# EAGLE library part RJ12 (library lpatiny)
CORCOM Modular RJ Jacks No Shield Source: www.tycoelectronics.com .. ENG_DS_1654001_1099_RJ_L_0507.pdf
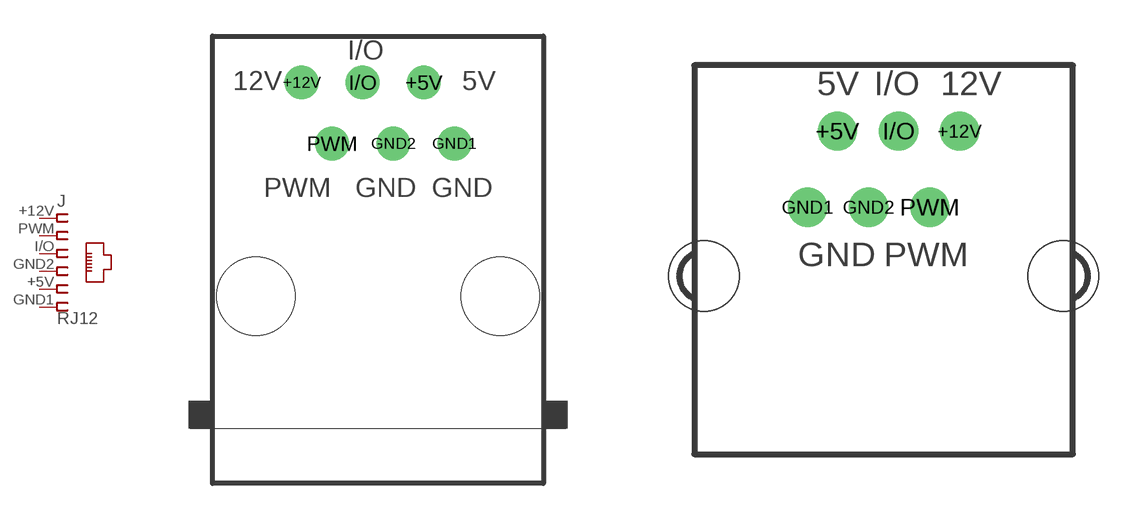
[diagram p5: symbol with the pads of RJ12-STRAIGHT; footprints RJ12-STRAIGHT, RJ12-RIGHTANGLE]

Designator prefix J

## RJ12STRAIGHT  [RJ12-STRAIGHT]
+5V  5  pwr
+12V  1  pwr
GND1  6  pwr
GND2  4  pwr
I/O  3
PWM  2

## RJ12RIGHTANGLE  [RJ12-RIGHTANGLE]
Pads as for RJ12-STRAIGHT

## RJ12STRAIGHT-I2C  [RJ12-STRAIGHT-I2C]
+5V  5  pwr
+12V  1  pwr
GND1  6  pwr
GND2  4  pwr
SCL  2
SDA  3

## RJ12STRAIGHT-RGB  [RJ12-STRAIGHT-RGB]
+5V  5  pwr
+12V  1  pwr
B  3
G  4  pwr
GND1  6  pwr
R  2

## RJ12STRAIGHT-ANALOG  [RJ12-STRAIGHT-ANALOG]
+5V  5  pwr
+12V  1  pwr
GND1  6  pwr
GND2  4  pwr
GND3  2
IN  3

## RJ12STRAIGHT-RS232-SERVER  [RJ12-STRAIGHT-RS232]
+5V  5  pwr
+12V  1  pwr
GND1  6  pwr
GND2  4  pwr
RX  2
TX  3

## Footprint RJ12-STRAIGHT (pad centres in mm)
RJ11 Low Profile No Shield For all RJ11 N and Z Series Models Source: www.tycoelectronics.com .. ENG_DS_1654001_1099_RJ_L_0507.pdf
drill 0.9 pad 1.4: +5V 1.905,8.89; +12V -3.175,8.89; GND1 3.175,6.35; GND2 0.635,6.35; I/O -0.635,8.89; PWM -1.905,6.35
hole 3.251 at -5.08,0
hole 3.251 at 5.08,0

## Footprint RJ12-RIGHTANGLE (pad centres in mm)
RJ11 6 connects Source: YH-55-10.pdf
drill 0.8 pad 1.3: +5V -1.54,4.84; +12V 2.54,4.84; GND1 -2.54,2.3; GND2 -0.5,2.3; I/O 0.5,4.84; PWM 1.54,2.3
hole 2.36 at -6,0
hole 2.36 at 6,0

## Footprint RJ12-STRAIGHT-I2C (pad centres in mm)
drill 0.9 pad 1.4: +5V 1.905,8.89; +12V -3.175,8.89; GND1 3.175,6.35; GND2 0.635,6.35; SCL -1.905,6.35; SDA -0.635,8.89
hole 3.251 at -5.08,0
hole 3.251 at 5.08,0

## Footprint RJ12-STRAIGHT-RGB (pad centres in mm)
drill 0.9 pad 1.4: +5V 1.905,8.89; +12V -3.175,8.89; B -0.635,8.89; G 0.635,6.35; GND1 3.175,6.35; R -1.905,6.35
hole 3.251 at -5.08,0
hole 3.251 at 5.08,0

## Footprint RJ12-STRAIGHT-ANALOG (pad centres in mm)
drill 0.9 pad 1.4: +5V 1.905,8.89; +12V -3.175,8.89; GND1 3.175,6.35; GND2 0.635,6.35; GND3 -1.905,6.35; IN -0.635,8.89
hole 3.251 at -5.08,0
hole 3.251 at 5.08,0

## Footprint RJ12-STRAIGHT-RS232 (pad centres in mm)
drill 0.9 pad 1.4: +5V 1.905,8.89; +12V -3.175,8.89; GND1 3.175,6.35; GND2 0.635,6.35; RX -1.905,6.35; TX -0.635,8.89
hole 3.251 at -5.08,0
hole 3.251 at 5.08,0